# Altium schematic symbol library RC2512JK-071ML.SchLib: 1 symbol
Pins are listed as number, name and electrical type; pins without a type are passive.

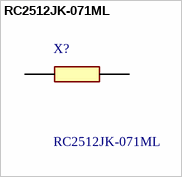
[diagram p0: symbol RC2512JK-071ML]

## RC2512JK-071ML
designator X?
1 MOhms +/-5% 1W Chip Resistor 2512 (6432 Metric) Moisture Resistant Thick Film; Manufacturer_Name: YAGEO; Geometry.Height: 0.65mm; Mouser Part Number: 603-RC2512JK-071ML; Mouser Price/Stock: https://www.mouser.co.uk/ProductDetail/YAGEO/RC2512JK-071ML?qs=Fz%2FrpjPuTcGzVNzRy4mnPw%3D%3D; Manufacturer_Part_Number: RC2512JK-071ML; Datasheet Link: https://www.yageo.com/upload/media/product/products/datasheet/rchip/PYu-RC_Group_51_RoHS_L_12.pdf
footprint RESC6431X65N
pins: 1, 2